# EAGLE library part ESP-12E (library uoo-light)
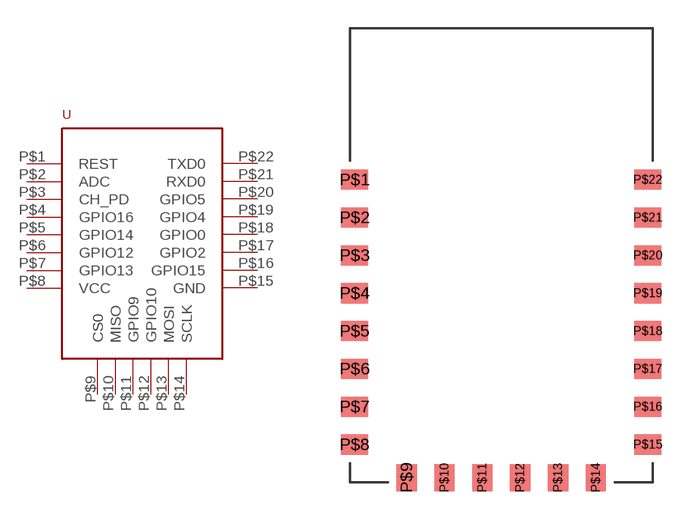
[diagram p0: symbol with the pads of ESP12E-SMD; footprint ESP12E-SMD]

Designator prefix -

## ESP-12EESP12E-SMD  [ESP12E-SMD]
P$1  REST
P$2  ADC
P$3  CH_PD
P$4  GPIO16
P$5  GPIO14
P$6  GPIO12
P$7  GPIO13
P$8  VCC
P$9  CS0
P$10  MISO
P$11  GPIO9
P$12  GPIO10
P$13  MOSI
P$14  SCLK
P$15  GND
P$16  GPIO15
P$17  GPIO2
P$18  GPIO0
P$19  GPIO4
P$20  GPIO5
P$21  RXD0
P$22  TXD0

## Footprint ESP12E-SMD (pad centres in mm)
smd 1.422 x 1.067: P$1 0.25,-8; P$2 0.25,-10; P$3 0.25,-12; P$4 0.25,-14; P$5 0.25,-16; P$6 0.25,-18; P$7 0.25,-20; P$8 0.25,-22; P$15 15.75,-22; P$16 15.75,-20; P$17 15.75,-18; P$18 15.75,-16; P$19 15.75,-14; P$20 15.75,-12; P$21 15.75,-10; P$22 15.75,-8
smd 1.067 x 1.422: P$9 3,-23.75; P$10 5,-23.75; P$11 7,-23.75; P$12 9,-23.75; P$13 11,-23.75; P$14 13,-23.75